# Altium footprint library FXMA2104UMX.PcbLib: 1 footprints
Each footprint in its own frame and in the unit in brackets; x right, y up, seen from the top. Pads: shape width x height; smd on the part's side, far side on the other; paste and mask are expansions set on the pad; w line width, h text height; cw(c..) or ccw(c..) is an arc to the next point about the centre after c.
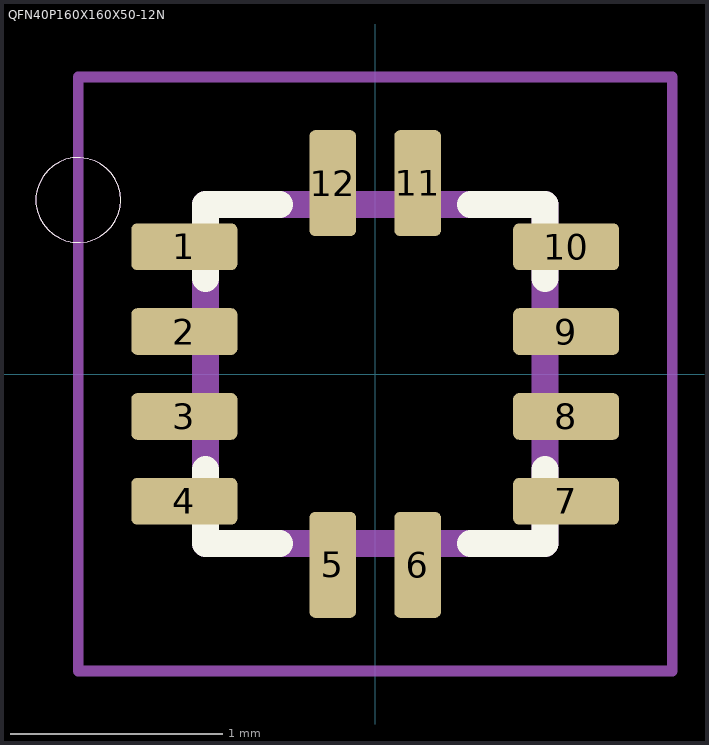
[diagram p0: the footprint, top view; thin cyan lines are the x and y axes]

## QFN40P160X160X50-12N [mm]
pads (12):
  rrect25% 0.5x0.22 smd: 1(-0.9,0.6) 2(-0.9,0.2) 3(-0.9,-0.2) 4(-0.9,-0.6) 7(0.9,-0.6) 8(0.9,-0.2) 9(0.9,0.2) 10(0.9,0.6)
  rrect25% 0.22x0.5 smd: 5(-0.2,-0.9) 6(0.2,-0.9) 11(0.2,0.9) 12(-0.2,0.9)
Top Overlay:
  circle w0: c-1.4,0.82 r0.2
  lines w0.127: -0.8,-0.45 -0.8,-0.8 -0.45,-0.8 ; -0.8,0.45 -0.8,0.8 -0.45,0.8 ; 0.45,-0.8 0.8,-0.8 0.8,-0.45 ; 0.45,0.8 0.8,0.8 0.8,0.45
Mechanical 13:
  circle w0: c-1.4,0.82 r0.2
  lines w0.127: -0.8,-0.8 0.8,-0.8 0.8,0.8 -0.8,0.8 -0.8,-0.8
Mechanical 15:
  lines w0.05: -1.4,-1.4 1.4,-1.4 1.4,1.4 -1.4,1.4 -1.4,-1.4